# Altium schematic symbol library DEA162450BT.Schlib: 1 symbol
Pins are listed as number, name and electrical type; pins without a type are passive.

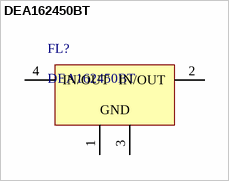
[diagram p0: symbol DEA162450BT]

## DEA162450BT
designator FL?
2.45GHz Center Frequency Band Pass RF Filter (Radio Frequency) 100MHz Bandwidth 3dB 0603 (1608 Metric), 4 PC Pad
pins: 1 GND, 2 IN/OUT, 3 GND, 4 IN/OUT